# Altium schematic symbol library BL8578.SchLib: 1 symbol
Pins are listed as number, name and electrical type; pins without a type are passive.

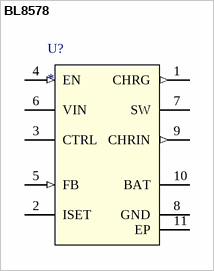
[diagram p0: symbol BL8578]

## BL8578
designator U?
Max.2A Li-ion Switching Charger IC
pins: 1 CHRG (out), 2 ISET, 3 CTRL, 4 EN (in), 5 FB (in), 6 VIN (power), 7 SW, 8 GND (power), 9 CHRIN (out), 10 BAT (power), 11 EP (power)